# EAGLE library part S20P (library con-amp-mt)
AMP MT CONNECTOR
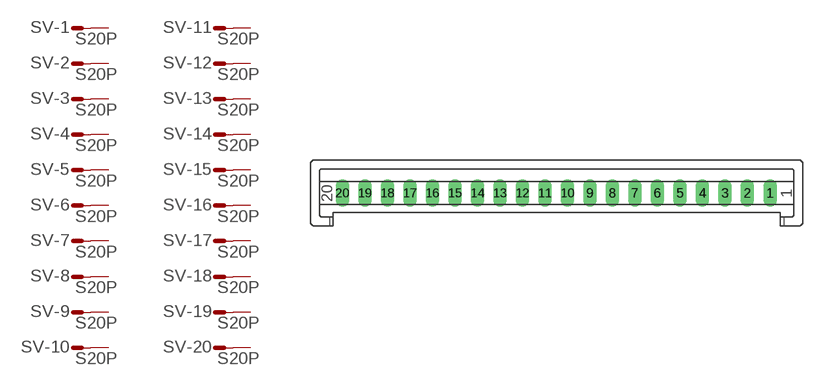
[diagram p19: symbol with the pads of S20P; footprint S20P]

Designator prefix SV; gates -1=M -2=M -3=M -4=M -5=M -6=M -7=M -8=M -9=M -10=M -11=M -12=M -13=M -14=M -15=M -16=M -17=M -18=M -19=M -20=M

## S20P (OC_FARNELL: unknown; OC_NEWARK: unknown)  [S20P]
1  -1:S  pas
2  -2:S  pas
3  -3:S  pas
4  -4:S  pas
5  -5:S  pas
6  -6:S  pas
7  -7:S  pas
8  -8:S  pas
9  -9:S  pas
10  -10:S  pas
11  -11:S  pas
12  -12:S  pas
13  -13:S  pas
14  -14:S  pas
15  -15:S  pas
16  -16:S  pas
17  -17:S  pas
18  -18:S  pas
19  -19:S  pas
20  -20:S  pas

## Footprint S20P (pad centres in mm)
AMP MT CONNECTOR
drill 1.016 long: 1 23.75,0; 2 21.25,0; 3 18.75,0; 4 16.25,0; 5 13.75,0; 6 11.25,0; 7 8.75,0; 8 6.25,0; 9 3.75,0; 10 1.25,0; 11 -1.25,0; 12 -3.75,0; 13 -6.25,0; 14 -8.75,0; 15 -11.25,0; 16 -13.75,0; 17 -16.25,0; 18 -18.75,0; 19 -21.25,0; 20 -23.75,0